# Altium footprint library EISI.PcbLib: 695 footprints (part 10 of 44)
Each footprint in its own frame and in the unit in brackets; x right, y up, seen from the top. Pads: shape width x height; smd on the part's side, far side on the other; paste and mask are expansions set on the pad; w line width, h text height; cw(c..) or ccw(c..) is an arc to the next point about the centre after c.
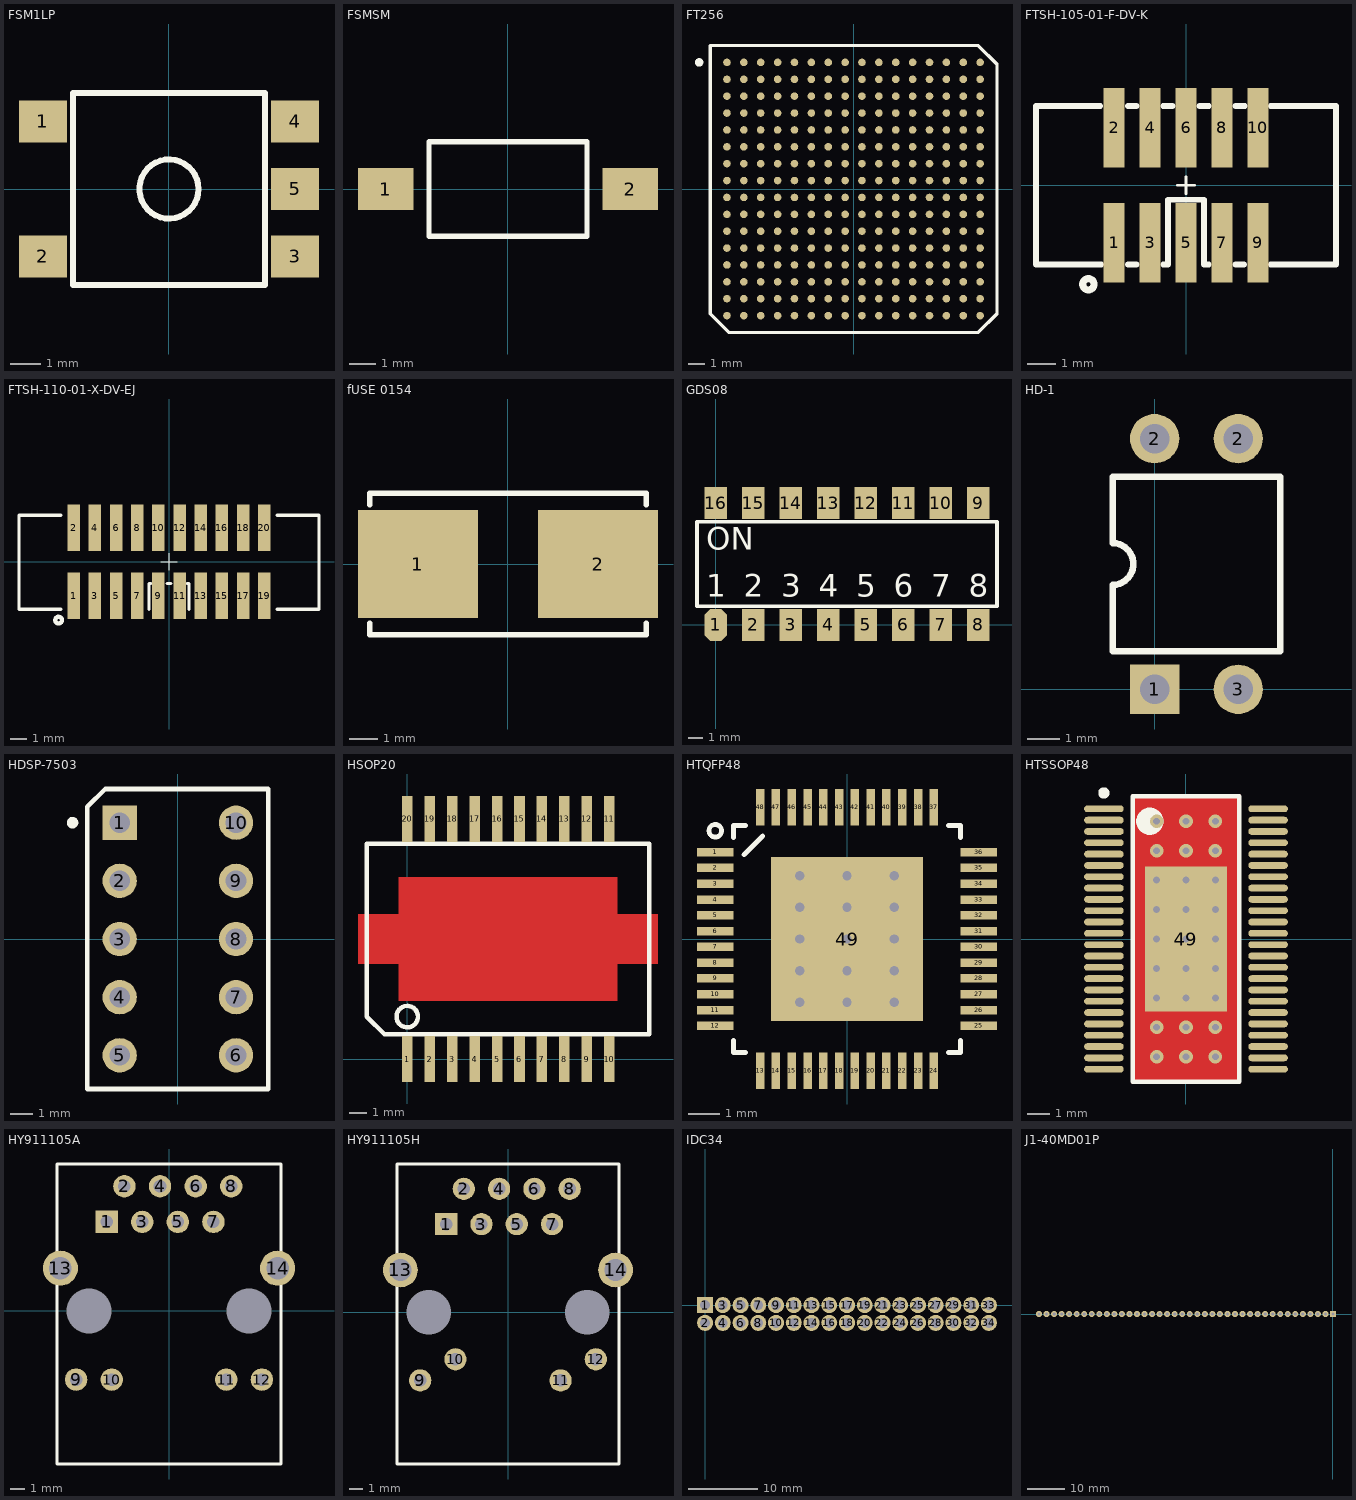
[diagram p9: the footprints below, top view; thin cyan lines are the x and y axes]

## FSM1LP [mm] "Tactile Switches, 6 x 6mm, Low Profile, Surface Mount"
height 3.1
pads (5):
  rect 1.6x1.4 smd: 1(-4.2,2.25) 2(-4.2,-2.25) 3(4.2,-2.25) 4(4.2,2.25) 5(4.2,0)
TopOverlay:
  circle w0.2: c0,0 r0.985
  lines w0.2: -3.2,-3.2 3.2,-3.2 3.2,3.2 -3.2,3.2 -3.2,-3.2

## FSMSM [mm] "Switch SMD"
height 4.3
pads (2):
  rect 2.1x1.6 smd: 1(-4.65,0) 2(4.65,0)
TopOverlay:
  lines w0.2: -3,-1.8 -3,1.8 3,1.8 3,-1.8 -3,-1.8

## FT256 [mm]
pads (256):
  round 0.45 smd: A1(-7.5,7.5) A2(-6.5,7.5) A3(-5.5,7.5) A4(-4.5,7.5) A5(-3.5,7.5) A6(-2.5,7.5) A7(-1.5,7.5) A8(-0.5,7.5) A9(0.5,7.5) A10(1.5,7.5) A11(2.5,7.5) A12(3.5,7.5) A13(4.5,7.5) A14(5.5,7.5) A15(6.5,7.5) A16(7.5,7.5) B1(-7.5,6.5) B2(-6.5,6.5) B3(-5.5,6.5) B4(-4.5,6.5) B5(-3.5,6.5) B6(-2.5,6.5) B7(-1.5,6.5) B8(-0.5,6.5) B9(0.5,6.5) B10(1.5,6.5) B11(2.5,6.5) B12(3.5,6.5) B13(4.5,6.5) B14(5.5,6.5) B15(6.5,6.5) B16(7.5,6.5) C1(-7.5,5.5) C2(-6.5,5.5) C3(-5.5,5.5) C4(-4.5,5.5) C5(-3.5,5.5) C6(-2.5,5.5) C7(-1.5,5.5) C8(-0.5,5.5) C9(0.5,5.5) C10(1.5,5.5) C11(2.5,5.5) C12(3.5,5.5) C13(4.5,5.5) C14(5.5,5.5) C15(6.5,5.5) C16(7.5,5.5) D1(-7.5,4.5) D2(-6.5,4.5) D3(-5.5,4.5) D4(-4.5,4.5) D5(-3.5,4.5) D6(-2.5,4.5) D7(-1.5,4.5) D8(-0.5,4.5) D9(0.5,4.5) D10(1.5,4.5) D11(2.5,4.5) D12(3.5,4.5) D13(4.5,4.5) D14(5.5,4.5) D15(6.5,4.5) D16(7.5,4.5) E1(-7.5,3.5) E2(-6.5,3.5) E3(-5.5,3.5) E4(-4.5,3.5) E5(-3.5,3.5) E6(-2.5,3.5) E7(-1.5,3.5) E8(-0.5,3.5) E9(0.5,3.5) E10(1.5,3.5) E11(2.5,3.5) E12(3.5,3.5) E13(4.5,3.5) E14(5.5,3.5) E15(6.5,3.5) E16(7.5,3.5) F1(-7.5,2.5) F2(-6.5,2.5) F3(-5.5,2.5) F4(-4.5,2.5) F5(-3.5,2.5) F6(-2.5,2.5) F7(-1.5,2.5) F8(-0.5,2.5) F9(0.5,2.5) F10(1.5,2.5) F11(2.5,2.5) F12(3.5,2.5) F13(4.5,2.5) F14(5.5,2.5) F15(6.5,2.5) F16(7.5,2.5) G1(-7.5,1.5) G2(-6.5,1.5) G3(-5.5,1.5) G4(-4.5,1.5) G5(-3.5,1.5) G6(-2.5,1.5) G7(-1.5,1.5) G8(-0.5,1.5) G9(0.5,1.5) G10(1.5,1.5) G11(2.5,1.5) G12(3.5,1.5) G13(4.5,1.5) G14(5.5,1.5) G15(6.5,1.5) G16(7.5,1.5) H1(-7.5,0.5) H2(-6.5,0.5) H3(-5.5,0.5) H4(-4.5,0.5) H5(-3.5,0.5) H6(-2.5,0.5) H7(-1.5,0.5) H8(-0.5,0.5) H9(0.5,0.5) H10(1.5,0.5) H11(2.5,0.5) H12(3.5,0.5) H13(4.5,0.5) H14(5.5,0.5) H15(6.5,0.5) H16(7.5,0.5) J1(-7.5,-0.5) J2(-6.5,-0.5) J3(-5.5,-0.5) J4(-4.5,-0.5) J5(-3.5,-0.5) J6(-2.5,-0.5) J7(-1.5,-0.5) J8(-0.5,-0.5) J9(0.5,-0.5) J10(1.5,-0.5) J11(2.5,-0.5) J12(3.5,-0.5) J13(4.5,-0.5) J14(5.5,-0.5) J15(6.5,-0.5) J16(7.5,-0.5) K1(-7.5,-1.5) K2(-6.5,-1.5) K3(-5.5,-1.5) K4(-4.5,-1.5) K5(-3.5,-1.5) K6(-2.5,-1.5) K7(-1.5,-1.5) K8(-0.5,-1.5) K9(0.5,-1.5) K10(1.5,-1.5) K11(2.5,-1.5) K12(3.5,-1.5) K13(4.5,-1.5) K14(5.5,-1.5) K15(6.5,-1.5) K16(7.5,-1.5) L1(-7.5,-2.5) L2(-6.5,-2.5) L3(-5.5,-2.5) L4(-4.5,-2.5) L5(-3.5,-2.5) L6(-2.5,-2.5) L7(-1.5,-2.5) L8(-0.5,-2.5) L9(0.5,-2.5) L10(1.5,-2.5) L11(2.5,-2.5) L12(3.5,-2.5) L13(4.5,-2.5) L14(5.5,-2.5) L15(6.5,-2.5) L16(7.5,-2.5) M1(-7.5,-3.5) M2(-6.5,-3.5) M3(-5.5,-3.5) M4(-4.5,-3.5) M5(-3.5,-3.5) M6(-2.5,-3.5) M7(-1.5,-3.5) M8(-0.5,-3.5) M9(0.5,-3.5) M10(1.5,-3.5) M11(2.5,-3.5) M12(3.5,-3.5) M13(4.5,-3.5) M14(5.5,-3.5) M15(6.5,-3.5) M16(7.5,-3.5) N1(-7.5,-4.5) N2(-6.5,-4.5) N3(-5.5,-4.5) N4(-4.5,-4.5) N5(-3.5,-4.5) N6(-2.5,-4.5) N7(-1.5,-4.5) N8(-0.5,-4.5) N9(0.5,-4.5) N10(1.5,-4.5) N11(2.5,-4.5) N12(3.5,-4.5) N13(4.5,-4.5) N14(5.5,-4.5) N15(6.5,-4.5) N16(7.5,-4.5) P1(-7.5,-5.5) P2(-6.5,-5.5) P3(-5.5,-5.5) P4(-4.5,-5.5) P5(-3.5,-5.5) P6(-2.5,-5.5) P7(-1.5,-5.5) P8(-0.5,-5.5) P9(0.5,-5.5) P10(1.5,-5.5) P11(2.5,-5.5) P12(3.5,-5.5) P13(4.5,-5.5) P14(5.5,-5.5) P15(6.5,-5.5) P16(7.5,-5.5) R1(-7.5,-6.5) R2(-6.5,-6.5) R3(-5.5,-6.5) R4(-4.5,-6.5) R5(-3.5,-6.5) R6(-2.5,-6.5) R7(-1.5,-6.5) R8(-0.5,-6.5) R9(0.5,-6.5) R10(1.5,-6.5) R11(2.5,-6.5) R12(3.5,-6.5) R13(4.5,-6.5) R14(5.5,-6.5) R15(6.5,-6.5) R16(7.5,-6.5) T1(-7.5,-7.5) T2(-6.5,-7.5) T3(-5.5,-7.5) T4(-4.5,-7.5) T5(-3.5,-7.5) T6(-2.5,-7.5) T7(-1.5,-7.5) T8(-0.5,-7.5) T9(0.5,-7.5) T10(1.5,-7.5) T11(2.5,-7.5) T12(3.5,-7.5) T13(4.5,-7.5) T14(5.5,-7.5) T15(6.5,-7.5) T16(7.5,-7.5)
TopOverlay:
  circle w0.25: c-9.15,7.5 r0.125
  lines w0.2: -8.5,-7.384 -8.5,8.5 7.384,8.5 8.5,7.384 8.5,-7.384 7.384,-8.5 -7.384,-8.5 -8.5,-7.384

## FTSH-105-01-F-DV-K [mm] "1.27mm pitch, 10 pin, terminal strip; vertical, double row, w/ejector shroud, SMT"
height 5.97
pads (10):
  rect 0.75x2.8 smd mask+0: 1(-2.54,-2.032) 2(-2.54,2.032) 3(-1.27,-2.032) 4(-1.27,2.032) 5(0,-2.032) 6(0,2.032) 7(1.27,-2.032) 8(1.27,2.032) 9(2.54,-2.032) 10(2.54,2.032)
TopOverlay:
  circle w0.25: c-3.45,-3.5 r0.2
  lines w0.1: -0.3,0 0.3,0 ; 0,-0.3 0,0.3
  lines w0.2: -3.025,2.8 -5.3,2.8 -5.3,-2.8 -3,-2.8 ; -2.05,-2.8 -1.75,-2.8 ; -2.05,2.8 -1.75,2.8 ; -0.8,-2.8 -0.635,-2.8 ; -0.8,2.8 -0.475,2.8 ; -0.635,-2.765 -0.635,-0.508 0.635,-0.508 0.635,-2.8 0.8,-2.8 ; 0.475,2.8 0.8,2.8 ; 1.75,-2.8 2.05,-2.8 ; 1.75,2.8 2.075,2.8 ; 3,-2.8 5.3,-2.8 5.3,2.8 3,2.8

## FTSH-110-01-X-DV-EJ [mm] "1.27mm pitch, 20 pin, terminal strip; vertical, double row, w/ejector shroud, SMT"
height 5.97
pads (20):
  rect 0.75x2.8 smd mask+0: 1(-5.715,-2.032) 2(-5.715,2.032) 3(-4.445,-2.032) 4(-4.445,2.032) 5(-3.175,-2.032) 6(-3.175,2.032) 7(-1.905,-2.032) 8(-1.905,2.032) 9(-0.635,-2.032) 10(-0.635,2.032) 11(0.635,-2.032) 12(0.635,2.032) 13(1.905,-2.032) 14(1.905,2.032) 15(3.175,-2.032) 16(3.175,2.032) 17(4.445,-2.032) 18(4.445,2.032) 19(5.715,-2.032) 20(5.715,2.032)
TopOverlay:
  circle w0.25: c-6.625,-3.5 r0.2
  lines w0.05: -0.5,0 0.5,0 ; 0,-0.5 0,0.5
  lines w0.2: -6.5,-2.85 -9,-2.85 -9,2.8 -6.5,2.8 ; -1.2,-2.85 -1.2,-1.3 -1.1,-1.3 ; -0.1,-1.3 0.1,-1.3 ; 1.1,-1.3 1.2,-1.3 1.2,-2.85 ; 6.5,-2.85 9,-2.85 9,2.8 6.5,2.8

## fUSE 0154 [mm] "Littlefuse holder 154 familly"
height 3.81
pads (2):
  rect 4.24x3.81 smd: 1(-3.19,0) 2(3.19,0)
TopOverlay:
  lines w0.2: -4.9,-2.1 -4.9,-2.5 4.9,-2.5 4.9,-2.1 ; -4.9,2.1 -4.9,2.5 4.9,2.5 4.9,2.1

## GDS08 [mil]
pads (16):
  oct 60x85 smd: 1(0,0)
  rect 60x85 smd: 2(100,0) 3(200,0) 4(300,0) 5(400,0) 6(500,0) 7(600,0) 8(700,0) 9(700,325) 10(600,325) 11(500,325) 12(400,325) 13(300,325) 14(200,325) 15(100,325) 16(0,325)
TopOverlay:
  lines w9.84: -50,50 750,50 750,275 -50,275 -50,50
  text "1" at -25,75 h60
  text "ON" at -25,200 h60
  text "2" at 75,75 h60
  text "3" at 175,75 h60
  text "4" at 275,75 h60
  text "5" at 375,75 h60
  text "6" at 475,75 h60
  text "7" at 575,75 h60
  text "8" at 675,75 h60

## HD-1 [mm] "DIP; 4 Leads; Row Spacing 7.62 mm; Pitch 2.54 mm"
height 4.57
pads (4):
  rect 1.5x1.5 hole 0.9: 1(0,0)
  round 1.5 hole 0.9: 2(0,7.62) 2(2.54,7.62) 3(2.54,0)
TopOverlay:
  lines w0.2: -1.28,1.16 -1.28,3.175 ccw(c-1.28,3.81) -1.28,4.445 -1.28,6.46 3.82,6.46 3.82,1.16 -1.28,1.16

## HDSP-7503 [mm] "LED, 7-Segment Display, 7.62 mm, RHD; 10 Leads; Row Space 5.08 mm; Pitch 2.54 mm"
height 6.34
pads (10):
  rect 1.5x1.5 hole 0.9: 1(-2.54,5.08)
  round 1.5 hole 0.9: 2(-2.54,2.54) 3(-2.54,0) 4(-2.54,-2.54) 5(-2.54,-5.08) 6(2.54,-5.08) 7(2.54,-2.54) 8(2.54,0) 9(2.54,2.54) 10(2.54,5.08)
TopOverlay:
  circle w0.25: c-4.6,5.08 r0.125
  lines w0.2: -3.95,-6.55 -3.95,5.775 -3.175,6.55 3.95,6.55 3.95,-6.55 -3.95,-6.55

## HSOP20 [mm] "SOP20 with heatsink"
height 3.2
pads (20):
  rect 0.6x2.6 smd: 1(0,0) 2(1.27,0) 3(2.54,0) 4(3.81,0) 5(5.08,0) 6(6.35,0) 7(7.62,0) 8(8.89,0) 9(10.16,0) 10(11.43,0) 11(11.43,13.6) 12(10.16,13.6) 13(8.89,13.6) 14(7.62,13.6) 15(6.35,13.6) 16(5.08,13.6) 17(3.81,13.6) 18(2.54,13.6) 19(1.27,13.6) 20(0,13.6)
TopLayer:
  region: -0.5,10.3 -0.5,8.2 -2.8,8.2 -2.8,5.4 -0.5,5.4 -0.5,3.3 11.9,3.3 11.9,5.4 14.2,5.4 14.2,8.2 11.9,8.2 11.9,10.3
TopOverlay:
  circle w0.254: c-0.008,2.4 r0.608
  lines w0.25: -2.3,2.4 -1.3,1.4 13.7,1.4 13.7,12.2 -2.3,12.2 -2.3,2.4
TopSolder:
  region: -0.5,10.3 -0.5,8.2 -2.8,8.2 -2.8,5.4 -0.5,5.4 -0.5,3.3 11.9,3.3 11.9,5.4 14.2,5.4 14.2,8.2 11.9,8.2 11.9,10.3

## HTQFP48 [mm] "48-Pin PowerPad Quad Flat Pack 0.5 mm Pitch"
height 1.2
pads (49):
  rect 1.156x0.27 smd: 1(-4.174,2.75) 2(-4.174,2.25) 3(-4.174,1.75) 4(-4.174,1.25) 5(-4.174,0.75) 6(-4.174,0.25) 7(-4.174,-0.25) 8(-4.174,-0.75) 9(-4.174,-1.25) 10(-4.174,-1.75) 11(-4.174,-2.25) 12(-4.174,-2.75) 25(4.174,-2.75) 26(4.174,-2.25) 27(4.174,-1.75) 28(4.174,-1.25) 29(4.174,-0.75) 30(4.174,-0.25) 31(4.174,0.25) 32(4.174,0.75) 33(4.174,1.25) 34(4.174,1.75) 35(4.174,2.25) 36(4.174,2.75)
  rect 0.27x1.156 smd: 13(-2.75,-4.174) 14(-2.25,-4.174) 15(-1.75,-4.174) 16(-1.25,-4.174) 17(-0.75,-4.174) 18(-0.25,-4.174) 19(0.25,-4.174) 20(0.75,-4.174) 21(1.25,-4.174) 22(1.75,-4.174) 23(2.25,-4.174) 24(2.75,-4.174) 37(2.75,4.174) 38(2.25,4.174) 39(1.75,4.174) 40(1.25,4.174) 41(0.75,4.174) 42(0.25,4.174) 43(-0.25,4.174) 44(-0.75,4.174) 45(-1.25,4.174) 46(-1.75,4.174) 47(-2.25,4.174) 48(-2.75,4.174)
  rect 4.8x5.2 smd: 49(0,0)
via -1.5,-2 diameter 0.7 hole 0.3
via 0,0 diameter 0.7 hole 0.3
via -1.5,0 diameter 0.7 hole 0.3
via 0,-2 diameter 0.7 hole 0.3
via 1.5,-2 diameter 0.7 hole 0.3
via 1.5,0 diameter 0.7 hole 0.3
via 1.5,2 diameter 0.7 hole 0.3
via -1.5,2 diameter 0.7 hole 0.3
via 0,2 diameter 0.7 hole 0.3
via -1.5,1 diameter 0.7 hole 0.3
via 0,1 diameter 0.7 hole 0.3
via 1.5,1 diameter 0.7 hole 0.3
via 1.5,-1 diameter 0.7 hole 0.3
via 0,-1 diameter 0.7 hole 0.3
via -1.5,-1 diameter 0.7 hole 0.3
TopOverlay:
  circle w0.15: c-4.174,3.429 r0.2
  lines w0.152: -3.6,-3.218 -3.6,-3.6 -3.218,-3.6 ; -3.6,3.218 -3.6,3.6 -3.218,3.6 ; -3.263,2.667 -2.667,3.263 ; 3.218,-3.6 3.6,-3.6 3.6,-3.218 ; 3.218,3.6 3.6,3.6 3.6,3.218

## HTSSOP48 [mm] "TSSOP, 48-Leads, Body 12.5x6.1mm, Pitch 0.5mm, IPC Medium Density"
height 1.2
pads (49):
  oval 1.75x0.3 smd: 1(-3.625,5.75) 2(-3.625,5.25) 3(-3.625,4.75) 4(-3.625,4.25) 5(-3.625,3.75) 6(-3.625,3.25) 7(-3.625,2.75) 8(-3.625,2.25) 9(-3.625,1.75) 10(-3.625,1.25) 11(-3.625,0.75) 12(-3.625,0.25) 13(-3.625,-0.25) 14(-3.625,-0.75) 15(-3.625,-1.25) 16(-3.625,-1.75) 17(-3.625,-2.25) 18(-3.625,-2.75) 19(-3.625,-3.25) 20(-3.625,-3.75) 21(-3.625,-4.25) 22(-3.625,-4.75) 23(-3.625,-5.25) 24(-3.625,-5.75) 25(3.625,-5.75) 26(3.625,-5.25) 27(3.625,-4.75) 28(3.625,-4.25) 29(3.625,-3.75) 30(3.625,-3.25) 31(3.625,-2.75) 32(3.625,-2.25) 33(3.625,-1.75) 34(3.625,-1.25) 35(3.625,-0.75) 36(3.625,-0.25) 37(3.625,0.25) 38(3.625,0.75) 39(3.625,1.25) 40(3.625,1.75) 41(3.625,2.25) 42(3.625,2.75) 43(3.625,3.25) 44(3.625,3.75) 45(3.625,4.25) 46(3.625,4.75) 47(3.625,5.25) 48(3.625,5.75)
  rect 3.6x6.4 smd: 49(0,0)
via 1.3,0 diameter 0.6 hole 0.3
via -1.3,0 diameter 0.6 hole 0.3
via -1.3,1.3 diameter 0.6 hole 0.3
via 0,1.3 diameter 0.6 hole 0.3
via 0,0 diameter 0.6 hole 0.3
via 1.3,1.3 diameter 0.6 hole 0.3
via 1.3,2.6 diameter 0.6 hole 0.3
via 0,2.6 diameter 0.6 hole 0.3
via -1.3,2.6 diameter 0.6 hole 0.3
via -1.3,3.9 diameter 0.6 hole 0.3
via 0,3.9 diameter 0.6 hole 0.3
via 1.3,3.9 diameter 0.6 hole 0.3
via 1.3,5.2 diameter 0.6 hole 0.3
via 0,5.2 diameter 0.6 hole 0.3
via -1.3,5.2 diameter 0.6 hole 0.3
via -1.3,-1.3 diameter 0.6 hole 0.3
via 0,-1.3 diameter 0.6 hole 0.3
via 1.3,-1.3 diameter 0.6 hole 0.3
via 1.3,-2.6 diameter 0.6 hole 0.3
via 0,-2.6 diameter 0.6 hole 0.3
via -1.3,-2.6 diameter 0.6 hole 0.3
via -1.3,-3.9 diameter 0.6 hole 0.3
via 0,-3.9 diameter 0.6 hole 0.3
via 1.3,-3.9 diameter 0.6 hole 0.3
via 1.3,-5.2 diameter 0.6 hole 0.3
via 0,-5.2 diameter 0.6 hole 0.3
via -1.3,-5.2 diameter 0.6 hole 0.3
TopLayer:
  rectangle: -2.4,-6.4 2.4,6.4
TopOverlay:
  circle w0.6: c-1.6,5.2 r0.3
  circle w0.25: c-3.625,6.45 r0.125
  lines w0.2: -2.35,-6.3 2.35,-6.3 2.35,6.3 -2.35,6.3 -2.35,-6.3
Mechanical15:
  lines w0.1: -0.5,0 0.5,0 ; 0,-0.5 0,0.5

## HY911105A [mm] "Hanrun RJ45 10/100 base T with leds"
height 13.5
pads (16):
  rect 1.6x1.6 hole 0.9: 1(-4.45,6.35)
  round 1.6 hole 0.9: 2(-3.18,8.89) 3(-1.91,6.35) 4(-0.64,8.89) 5(0.63,6.35) 6(1.9,8.89) 7(3.17,6.35) 8(4.44,8.89)
  round 1.6 hole 0.9 unplated: 9(-6.625,-4.9) 10(-4.085,-4.9) 11(4.085,-4.9) 12(6.625,-4.9)
  round 2.5 hole 1.6 unplated: 13(-7.745,3.05) 14(7.745,3.05)
  round 1.6 hole 3.2 unplated: ""(-5.715,0) ""(5.715,0)
TopOverlay:
  lines w0.2: -8,-10.92 8,-10.92 8,10.48 -8,10.48 -8,-10.92

## HY911105H [mm] "Hanrun RJ45 10/100 base T with leds"
height 13.5
pads (16):
  rect 1.6x1.6 hole 0.9: 1(-4.45,6.35)
  round 1.6 hole 0.9: 2(-3.18,8.89) 3(-1.91,6.35) 4(-0.64,8.89) 5(0.63,6.35) 6(1.9,8.89) 7(3.17,6.35) 8(4.44,8.89)
  round 1.6 hole 0.9 unplated: 9(-6.325,-4.9) 10(-3.785,-3.38) 11(3.786,-4.9) 12(6.325,-3.38)
  round 2.5 hole 1.6 unplated: 13(-7.745,3.05) 14(7.745,3.05)
  round 1.6 hole 3.2 unplated: ""(-5.715,0) ""(5.715,0)
TopOverlay:
  lines w0.2: -8,-10.92 -8,10.68 8,10.68 8,-10.92 -8,-10.92

## IDC34 [mm]
pads (34):
  rect 2.3x2.3 hole 1.4 unplated: 1(0,0)
  round 2.3 hole 1.4 unplated: 2(0,-2.54) 3(2.54,0) 4(2.54,-2.54) 5(5.08,0) 6(5.08,-2.54) 7(7.62,0) 8(7.62,-2.54) 9(10.16,0) 10(10.16,-2.54) 11(12.7,0) 12(12.7,-2.54) 13(15.24,0) 14(15.24,-2.54) 15(17.78,0) 16(17.78,-2.54) 17(20.32,0) 18(20.32,-2.54) 19(22.86,0) 20(22.86,-2.54) 21(25.4,0) 22(25.4,-2.54) 23(27.94,0) 24(27.94,-2.54) 25(30.48,0) 26(30.48,-2.54) 27(33.02,0) 28(33.02,-2.54) 29(35.56,0) 30(35.56,-2.54) 31(38.1,0) 32(38.1,-2.54) 33(40.64,0) 34(40.64,-2.54)

## J1-40MD01P [mm]
pads (40):
  rect 1.6x1.6 hole 0.9: 1(0,0)
  round 1.6 hole 0.9: 2(-2,0) 3(-4,0) 4(-6,0) 5(-8,0) 6(-10,0) 7(-12,0) 8(-14,0) 9(-16,0) 10(-18,0) 11(-20,0) 12(-22,0) 13(-24,0) 14(-26,0) 15(-28,0) 16(-30,0) 17(-32,0) 18(-34,0) 19(-36,0) 20(-38,0) 21(-40,0) 22(-42,0) 23(-44,0) 24(-46,0) 25(-48,0) 26(-50,0) 27(-52,0) 28(-54,0) 29(-56,0) 30(-58,0) 31(-60,0) 32(-62,0) 33(-64,0) 34(-66,0) 35(-68,0) 36(-70,0) 37(-72,0) 38(-74,0) 39(-76,0) 40(-78,0)